# EAGLE library part A7105_DEVBOARD (library rf)
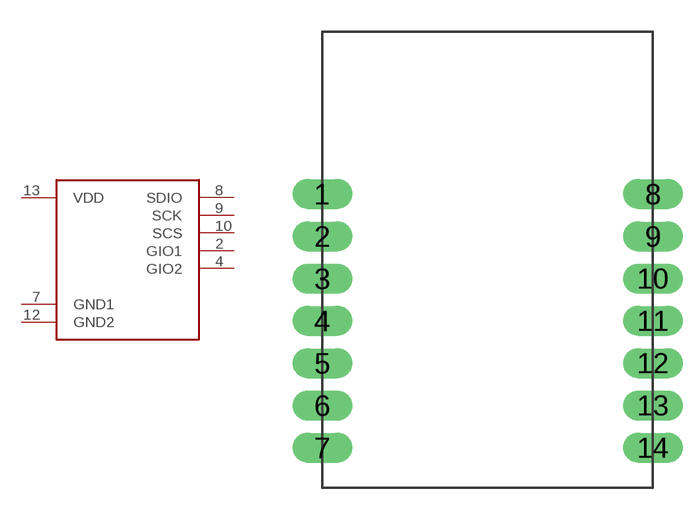
[diagram p0: symbol with the pads of A7105_DEV1; footprint A7105_DEV1]

Designator prefix -

## A7105_DEVBOARD  [A7105_DEV1]
2  GIO1
4  GIO2
7  GND1
8  SDIO
9  SCK
10  SCS
12  GND2
13  VDD

## Footprint A7105_DEV1 (pad centres in mm)
drill 0.914 long: 1 -7.811,12; 2 -7.811,10; 3 -7.811,8; 4 -7.811,6; 5 -7.811,4; 6 -7.811,2; 7 -7.811,0; 8 7.811,12; 9 7.811,10; 10 7.811,8; 11 7.811,6; 12 7.811,4; 13 7.811,2; 14 7.811,0